# EAGLE library part OVM7690-R20A (library modular_robotics)
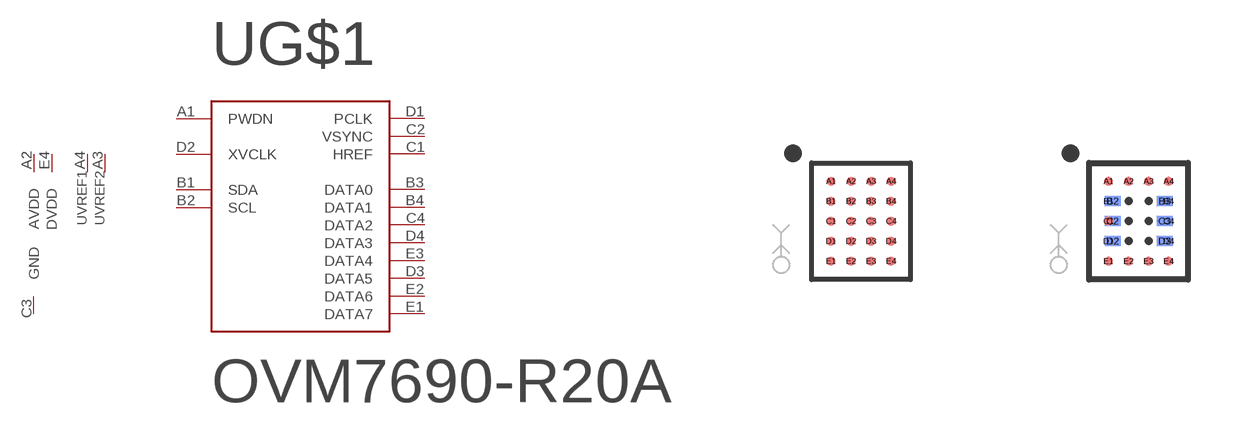
[diagram p5: symbol with the pads of CSP3-20; footprints CSP3-20, CSP3-20-6THROUGH]

Designator prefix -; gates G$1=CAMERA G$2=GND-AVDD-DVDD VREF1=VREF VREF2=VREF

## OVM7690-R20A-CSP  [CSP3-20]
A1  G$1:PWDN
A2  G$2:AVDD  pwr
A3  VREF2:V  pwr
A4  VREF1:V  pwr
B1  G$1:SDA
B2  G$1:SCL
B3  G$1:DATA0
B4  G$1:DATA1
C1  G$1:HREF
C2  G$1:VSYNC
C3  G$2:GND  pwr
C4  G$1:DATA2
D1  G$1:PCLK
D2  G$1:XVCLK
D3  G$1:DATA5
D4  G$1:DATA3
E1  G$1:DATA7
E2  G$1:DATA6
E3  G$1:DATA4
E4  G$2:DVDD  pwr

## OVM7690-R20A-6THROUGH  [CSP3-20-6THROUGH]
Pads as for CSP3-20

## OVM7690-R20A-DEV_MODULE  [OVM_DEV_MODULE]
A1  G$1:PWDN
A2  G$1:SDA
A3  G$1:SCL
A4  G$1:HREF
A5  G$1:VSYNC
A6  G$1:PCLK
A7  G$1:XVCLK
A9  G$2:AVDD  pwr
A10  VREF1:V  pwr
A11  VREF2:V  pwr
A16  G$2:DVDD  pwr
B8  G$2:GND  pwr
B9  G$1:DATA0
B10  G$1:DATA1
B11  G$1:DATA2
B12  G$1:DATA3
B13  G$1:DATA4
B14  G$1:DATA5
B15  G$1:DATA6
B16  G$1:DATA7

## Footprint CSP3-20 (pad centres in mm)
smd 0.23 x 0.23: A1 -0.75,1.002; A2 -0.251,1.002; A3 0.249,1.002; A4 0.75,1.002; B1 -0.75,0.502; B2 -0.251,0.502; B3 0.249,0.502; B4 0.75,0.502; C1 -0.75,0.003; C2 -0.251,0.003; C3 0.249,0.003; C4 0.75,0.003; D1 -0.75,-0.497; D2 -0.251,-0.497; D3 0.249,-0.497; D4 0.75,-0.497; E1 -0.75,-0.998; E2 -0.251,-0.998; E3 0.249,-0.998; E4 0.75,-0.998

## Footprint CSP3-20-6THROUGH (pad centres in mm)
smd 0.23 x 0.23: A1 -0.75,1; A2 -0.25,1; A3 0.25,1; A4 0.75,1; B1 -0.75,0.5; B4 0.75,0.5; C1 -0.75,0; C4 0.75,0; D1 -0.75,-0.5; D4 0.75,-0.5; E1 -0.75,-1; E2 -0.25,-1; E3 0.25,-1; E4 0.75,-1
smd 0.4 x 0.25 bottom: B2 -0.649,0.502; B3 0.65,0.502; C2 -0.649,0.003; C3 0.65,0.003; D2 -0.649,-0.497; D3 0.65,-0.497

## Footprint OVM_DEV_MODULE (pad centres in mm)
drill 1.1 square: A1 0,17.78; A9 38.1,17.78
drill 1.1: A2 0,15.24; A3 0,12.7; A4 0,10.16; A5 0,7.62; A6 0,5.08; A7 0,2.54; A8 0,0; A10 38.1,15.24; A11 38.1,12.7; A12 38.1,10.16; A13 38.1,7.62; A14 38.1,5.08; A15 38.1,2.54; A16 38.1,0; B1 2.54,17.78; B2 2.54,15.24; B3 2.54,12.7; B4 2.54,10.16; B5 2.54,7.62; B6 2.54,5.08; B7 2.54,2.54; B8 2.54,0; B9 40.64,17.78; B10 40.64,15.24; B11 40.64,12.7; B12 40.64,10.16; B13 40.64,7.62; B14 40.64,5.08; B15 40.64,2.54; B16 40.64,0